# EAGLE library part LS312 (library matlock)
Linear Systems LS312 matched NPN BJT transistors -- decent replacement for LM394 supermatch pair (it's better than datasheet's 5% figure)
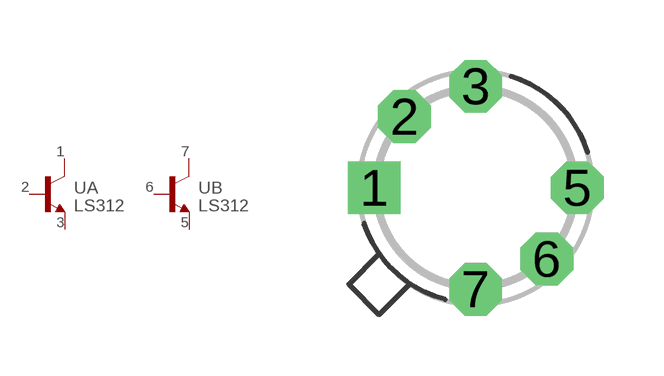
[diagram p7: symbol with the pads of TO78; footprint TO78]

Designator prefix -; gates A=NPN B=NPN

## LS312-TO78  [TO78]
1  A:C
2  A:B
3  A:E
5  B:E
6  B:B
7  B:C

## Footprint TO78 (pad centres in mm)
The numbering 1-3, 5-7 is actually correct (see http://www.linearsystems.com/assets/media/file/datasheets/LS310-3.pdf)
drill 0.813 square: 1 -2.54,0
drill 0.813 octagon: 2 -1.778,1.778; 3 0,2.54; 5 2.54,0; 6 1.778,-1.778; 7 0,-2.54